# EAGLE library part 805-111/000-006 (library con-wago_805)
Serie 805, Stand: 01.01.2012. Die jeweils aktuellen Daten zu diesem Artikel finden Sie in unserem Produktkatalog, den Sie unter www.wago.com einsehen können. As of: 01/01/2012. Please find the newest data for this article in our product catalogue, which can be viewed under www.wago.com.
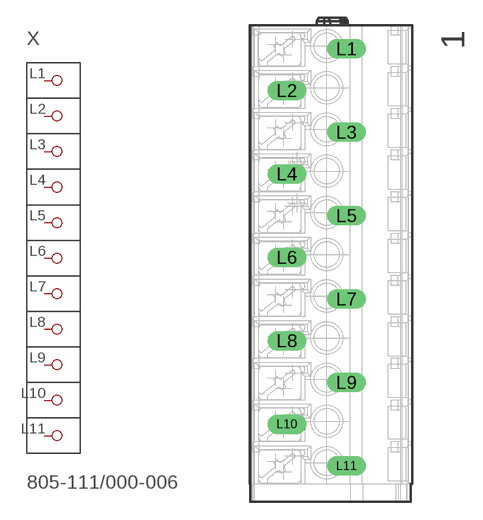
[diagram p43: symbol with the pads of P-805-111; footprint P-805-111]

Designator prefix X

## 805-111/000-006  [P-805-111]
L1  P1
L2  P2
L3  P3
L4  P4
L5  P5
L6  P6
L7  P7
L8  P8
L9  P9
L10  P10
L11  P11

## Footprint P-805-111 (pad centres in mm)
drill 1.1 long: L1 1.3,17.7; L2 -3.7,14.2; L3 1.3,10.7; L4 -3.7,7.2; L5 1.3,3.7; L6 -3.7,0.2; L7 1.3,-3.3; L8 -3.7,-6.8; L9 1.3,-10.3; L10 -3.7,-13.8; L11 1.3,-17.3